# EAGLE library part 62200821121 (library Board-to-Board (rev18a))
WR-PHD 1.27mm Dual Pin Header, 8 Pins=>Code : Con_BTB_PHD_1.27_2_62200821121 <http://katalog.we-online.de/media/thumbs2/eican/thb_Con_BTB_PHD_1.27_2_6220xx21121_pf2.jpg> Details see: http://katalog.we-online.de/en/em/622_0xx_211_21 Created 2014-06-03, Karrer Zheng 2014 (C) Würth Elektronik
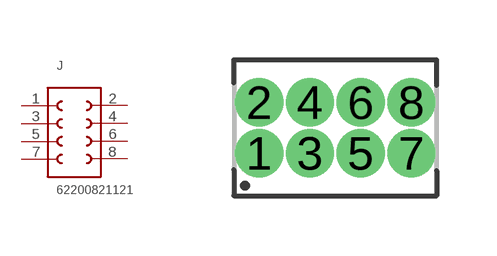
[diagram p271: symbol with the pads of 62200821121; footprint 62200821121]

Designator prefix J

## 62200821121  [62200821121]
1  1  pas
2  8  pas
3  2  pas
4  7  pas
5  3  pas
6  6  pas
7  4  pas
8  5  pas

## Footprint 62200821121 (pad centres in mm)
WR-PHD 1.27mm Dual Pin Header, 8 Pins
drill 0.7: 1 -1.905,-0.635; 2 -1.905,0.635; 3 -0.635,-0.635; 4 -0.635,0.635; 5 0.635,-0.635; 6 0.635,0.635; 7 1.905,-0.635; 8 1.905,0.635